# Altium footprint library PcbLib_LED.PcbLib: 1 footprints
Each footprint in its own frame and in the unit in brackets; x right, y up, seen from the top. Pads: shape width x height; smd on the part's side, far side on the other; paste and mask are expansions set on the pad; w line width, h text height; cw(c..) or ccw(c..) is an arc to the next point about the centre after c.
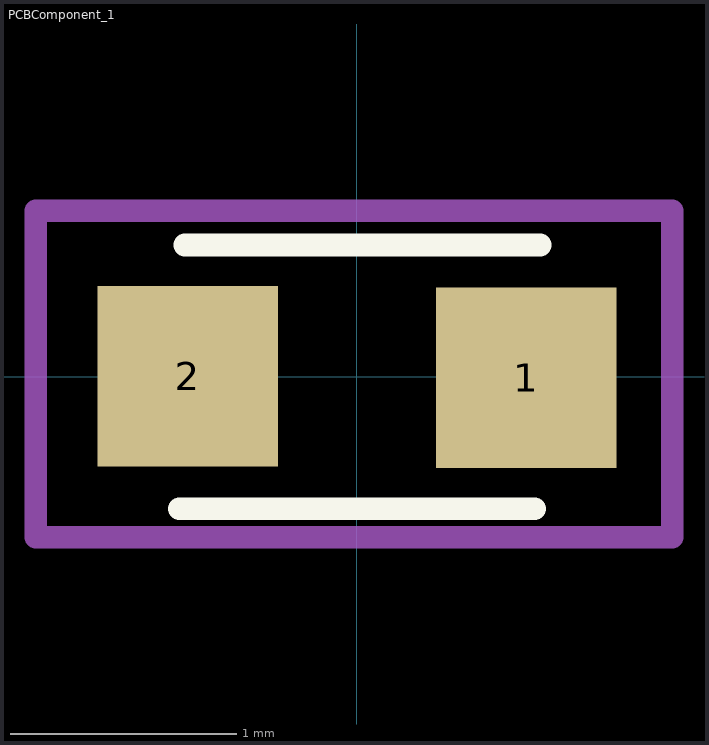
[diagram p0: the footprint, top view; thin cyan lines are the x and y axes]

## PCBComponent_1 [mm]
pads (2):
  rect 0.8x0.8 smd: 1(0.75,-0.003) 2(-0.75,0.003)
Top Overlay:
  lines w0.1: -0.787,-0.584 0.787,-0.584 ; -0.762,0.584 0.813,0.584
Mechanical29:
  lines w0.1: -1.422,-0.711 1.397,-0.711 1.397,0.737 -1.422,0.737 -1.422,-0.711
3D body "LTST-C191TBKT.STEP": height 0.65, standoff 0, extent -0.749,-0.375 0.851,0.425